# Altium schematic symbol library Movandi_11.SchLib: 20 symbols
Pins are listed as number, name and electrical type; pins without a type are passive.

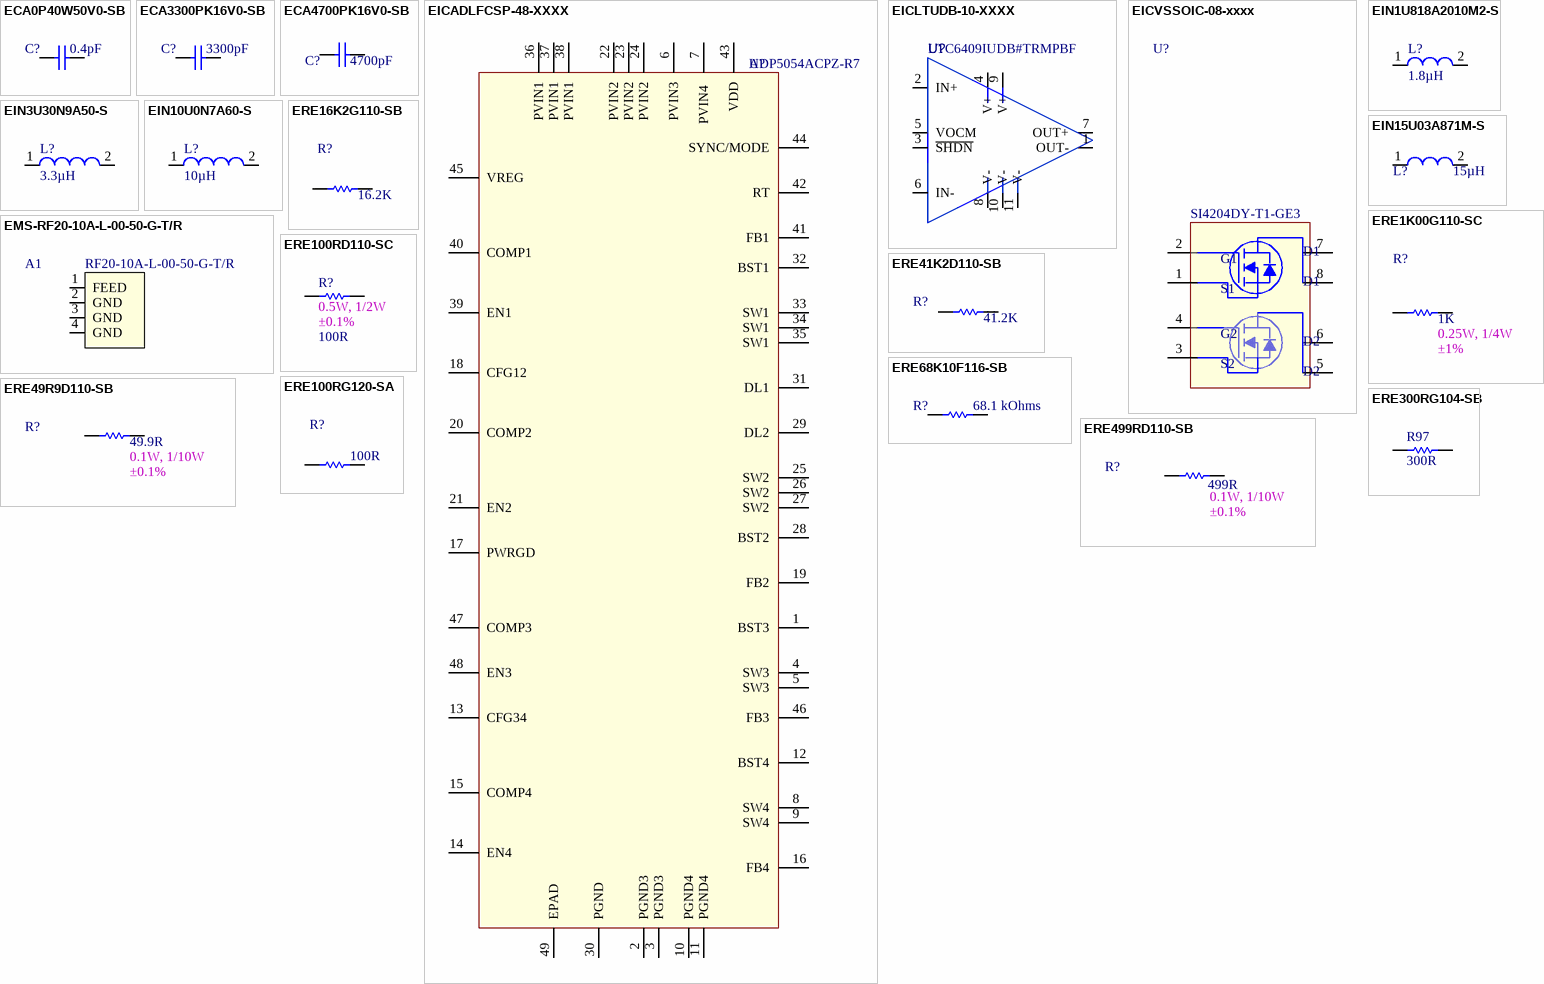
[diagram p0: symbols ECA0P40W50V0-SB to ERE499RD110-SB]

## ECA0P40W50V0-SB
designator C?, comment value 0.4pF  (hidden comment: CAP CER 0.4PF 50V C0G/NP0 0402)
Manufacturer: Murata Electronics; Vendor Part Number: 490-3080-1-ND; Manufacturer Part Number: GJM1555C1HR40BB01D; Internal Part Number: ECA0P40W50V0-SB; Vendor Name: Digi-Key; 3rd Auxiliary Field: ROHS3 Compliant; Component Height (mm): 0.55mm; Temp Co: -55°C ~ 125°C; 2nd Auxiliary Field: ±0.1pF; Part Type: CAP CER 0.4PF 50V C0G/NP0 0402; 4th Auxiliary Field: *; 1st Auxiliary Field: 50V
footprint SMDC0402 (Footprint not found)
pins: 1, 2

## ECA3300PK16V0-SB
designator C?, comment value 3300pF  (hidden comment: CAP CER 3300PF 16V X7R 0402)
Manufacturer: Yageo; Vendor Part Number: 311-3803-1-ND; Manufacturer Part Number: CC0402KRX7R7BB332; Internal Part Number: ECA3300PK16V0-SB; Vendor Name: Digi-Key; 3rd Auxiliary Field: ROHS3 Compliant; Component Height (mm): 0.55MM; 2nd Auxiliary Field: ±10%; Part Type: CAP CER 3300PF 16V X7R 0402; Temp Co: X7R; 1st Auxiliary Field: 16V
footprint SMDC0402
pins: 1, 2

## ECA4700PK16V0-SB
designator C?, comment value 4700pF  (hidden comment: CAP CER 4700PF 16V X7R 0402)
Manufacturer: Yageo; Vendor Part Number: 311-1709-1-ND; Manufacturer Part Number: CC0402KRX7R7BB472; Internal Part Number: ECA4700PK16V0-SB; Vendor Name: Digi-Key; 3rd Auxiliary Field: ROHS3 Compliant; Component Height (mm): 0.55MM; 2nd Auxiliary Field: ±10%; Part Type: CAP CER 4700PF 16V X7R 0402; Temp Co: X7R; 1st Auxiliary Field: 16V
footprint SMDC0402
pins: 1, 2

## EICADLFCSP-48-XXXX
designator U?, comment value ADP5054ACPZ-R7  (hidden comment: IC REG CTRLR BUCK 48LFCSP)
Internal Part Number: EICADLFCSP-48-XXXX; Manufacturer: Analog Devices Inc.; Vendor Part Number: ADP5054ACPZ-R7CT-ND; 1st Auxiliary Field: 4.5V ~ 15.5V; 2nd Auxiliary Field: 250kHz ~ 2MHz; 4th Auxiliary Field: RoHS Compliant; Component Height (mm): 0.80mm; Temp Co: -40°C ~ 125°C (TJ); Vendor Name: Digi-Key; 3rd Auxiliary Field: *; Manufacturer Part Number: ADP5054ACPZ-R7; Part Type: IC REG CTRLR BUCK 48LFCSP
footprint QFN50P700X700X80_HS-49N (Footprint not found)
pins: 1 BST3, 2 PGND3, 3 PGND3, 4 SW3, 5 SW3, 6 PVIN3, 7 PVIN4 , 8 SW4, 9 SW4, 10 PGND4, 11 PGND4, 12 BST4, 13 CFG34 , 14 EN4, 15 COMP4, 16 FB4, 17 PWRGD, 18 CFG12, 19 FB2, 20 COMP2, 21 EN2, 22 PVIN2, 23 PVIN2, 24 PVIN2, 25 SW2, 26 SW2, 27 SW2, 28 BST2, 29 DL2, 30 PGND, 31 DL1, 32 BST1, 33 SW1, 34 SW1, 35 SW1, 36 PVIN1, 37 PVIN1, 38 PVIN1, 39 EN1, 40 COMP1, 41 FB1, 42 RT, 43 VDD, 44 SYNC/MODE, 45 VREG, 46 FB3, 47 COMP3, 48 EN3, 49 EPAD

## EICLTUDB-10-XXXX
designator U?, comment value LTC6409IUDB#TRMPBF  (hidden comment: IC ADC DRIVER 10QFN)
Manufacturer: Linear Technology/Analog Devices; Internal Part Number: EICLTUDB-10-XXXX; Vendor Part Number: LTC6409IUDB#TRMPBFCT-ND; 3rd Auxiliary Field: ROHS3 Compliant; Component Height (mm): 1.10mm; Temp Co: –40°C to 85°C; Vendor Name: Digi-Key; 1st Auxiliary Field: 1.8 V ~ 5.5 V, ±0.9 V ~ 2.75 V; 2nd Auxiliary Field: 52mA; Manufacturer Part Number: LTC6409IUDB#TRMPBF; Part Type: IC ADC DRIVER 10QFN; 4th Auxiliary Field: *
footprint QFN50P300X200X80-11N
pins: 1 OUT-, 2 IN+ "Positive Differential Input", 3 ~{SHDN} "Shutdown Terminal (active low)", 4 V+, 5 VOCM (power), 6 IN- "Negative Differential Input", 7 OUT+, 8 V-, 9 V+, 10 V-, 11 V-

## EICVSSOIC-08-xxxx
designator U?, comment value SI4204DY-T1-GE3  (hidden comment: MOSFET 2N-CH 20V 19.8A 8-SOIC)
Manufacturer: Vishay Siliconix; Internal Part Number: EICVSSOIC-08-xxxx; Vendor Part Number: SI4204DY-T1-GE3CT-ND; Component Height (mm): 1.75mm; Temp Co: -55°C ~ 150°C (TJ); Vendor Name: Digi-Key; 1st Auxiliary Field: 20V; 2nd Auxiliary Field: 19.8A; 3rd Auxiliary Field: *; Part Type: MOSFET 2N-CH 20V 19.8A 8-SOIC; 4th Auxiliary Field: *; Manufacturer Part Number: SI4204DY-T1-GE3
footprint SOIC127P600X176-8N (TL972QDRQ1, IC OPAMP GP 12MHZ RRO 8SOIC)
pins: 1 S1, 2 G1, 3 S2, 4 G2, 5 D2, 6 D2, 7 D1, 8 D1

## EIN1U818A2010M2-S
designator L?, comment value 1.8µH  (hidden comment: FIXED IND 1.8UH 14A 10.2MOHM SMD)
Manufacturer: Bourns Inc.; Manufacturer Part Number: SRP6030CA-1R8M; Vendor Part Number: SRP6030CA-1R8MCT-ND; Internal Part Number: EIN1U818A2010M2-S; 3rd Auxiliary Field: 10.2mOhm Max; Vendor Name: Digi-Key; 4th Auxiliary Field: ROHS3 Compliant; Component Height (mm): 3.00mm; Temp Co: -55°C ~ 155°C; 1st Auxiliary Field: 18.2A; 2nd Auxiliary Field: ±20%; Part Type: FIXED IND 1.8UH 14A 10.2MOHM SMD
footprint INDP660X640X310
pins: 1, 2

## EIN3U30N9A50-S
designator L?, comment value 3.3µH  (hidden comment: FIX IND 3.3UH 8.1A 23.1MOHM SMD)
Manufacturer: Pulse Electronics Power; Manufacturer Part Number: PA5003.332NLT; Internal Part Number: EIN3U30N9A50-S; Vendor Part Number: 553-4089-1-ND; 3rd Auxiliary Field: ±20%; 4th Auxiliary Field: RoHS Compliant; Vendor Name: Digi-Key; Component Height (mm): 3.10mm; Temp Co: -40°C ~ 125°C; 1st Auxiliary Field: 9.5A; 2nd Auxiliary Field: 23.1mOhm Max; Part Type: FIX IND 3.3UH 8.1A 23.1MOHM SMD
footprint IND_PA5003.332NLT (Footprint not found)
pins: 1, 2

## EIN10U0N7A60-S
designator L?, comment value 10µH  (hidden comment: FIXED IND 10UH 5A 26.5 MOHM)
Manufacturer: Würth Elektronik; Manufacturer Part Number: 74439346100; Internal Part Number: EIN10U0N7A60-S; Vendor Part Number: 732-10707-1-ND; 4th Auxiliary Field: ROHS3 Compliant; Vendor Name: Digi-Key; Component Height (mm): 6.10mm; Temp Co: -40°C ~ 125°C; 1st Auxiliary Field: 7.6A; 2nd Auxiliary Field: 20 %; 3rd Auxiliary Field: 26.5mOhm; Part Type: FIXED IND 10UH 5A 26.5 MOHM
footprint INDP665X645X610
pins: 1, 2

## EIN15U03A871M-S
designator L?, comment value 15µH  (hidden comment: FIXED IND 15UH 2.8A 71 MOHM SMD)
Manufacturer: Bourns Inc.; Manufacturer Part Number: SRN6045TA-150M; Vendor Part Number: SRN6045TA-150MCT-ND; Internal Part Number: EIN15U03A871M-S; 3rd Auxiliary Field: 71mOhm; Vendor Name: Digi-Key; 4th Auxiliary Field: RoHS Compliant; Component Height (mm): 4.50mm; Temp Co: 40°C ~ 125°C; 1st Auxiliary Field: 3.8A; 2nd Auxiliary Field: ±20%; Part Type: FIXED IND 15UH 2.8A 71 MOHM SMD
footprint INDP600X600X450
pins: 1, 2

## EMS-RF20-10A-L-00-50-G-T/R
designator A1, comment value RF20-10A-L-00-50-G-T/R  (hidden comment: CONN RF MHF SMT VERT 50OHM)
Manufacturer: Adam Tech; Internal Part Number: EMS-RF20-10A-L-00-50-G-T/R; Vendor Part Number: 2057-RF20-10A-L-00-50-G-T/RCT-ND; Component Height (mm): 0.6mm; 3rd Auxiliary Field: RoHS Compliant; 1st Auxiliary Field: 6GHz; Temp Co: -40°C ~ 80°C; Vendor Name: Digi-Key; Part Type: CONN RF MHF SMT VERT 50OHM; 2nd Auxiliary Field: 50Ohm; Manufacturer Part Number: RF20-10A-L-00-50-G-T/R; 4th Auxiliary Field: *
footprint ADAM_RF20-10A-L-00-50-G-T/R
pins: 1 FEED, 2 GND (power), 3 GND (power), 4 GND (power)

## ERE1K00G110-SC
designator R?, comment value 1K  2nd Auxiliary Field: ±1%  1st Auxiliary Field: 0.25W, 1/4W  (hidden comment: RES SMD 1K OHM 1% 1/4W 0603)
Manufacturer: Panasonic Electronic Components; Vendor Part Number: P1.0KBYCT-ND; Manufacturer Part Number: ERJ-PA3F1001V; Internal Part Number: ERE1K00G110-SC; Vendor Name: Digi-Key; 3rd Auxiliary Field: ROHS3 Compliant; Component Height (mm): 0.55mm; Temp Co: ±100ppm/°C; Part Type: RES SMD 1K OHM 1% 1/4W 0603
footprint SMDR0603 (Footprint not found)
pins: 1, 2

## ERE16K2G110-SB
designator R?, comment value 16.2K  (hidden comment: RES SMD 16.2K OHM 1% 1/10W 0402)
Manufacturer Part Number: ERJ-2RKF1622X; Manufacturer: Panasonic Electronic Components; Internal Part Number: ERE16K2G110-SB; Vendor Part Number: P16.2KLCT-ND; 3rd Auxiliary Field: ROHS3 Compliant; Vendor Name: Digi-Key; Component Height (mm): 0.40mm; Temp Co: ±100ppm/°C; 1st Auxiliary Field: 0.1W; 4th Auxiliary Field: *; Part Type: RES SMD 16.2K OHM 1% 1/10W 0402; 2nd Auxiliary Field: ±1%
footprint SMDR0402 (Footprint not found)
pins: 1, 2

## ERE41K2D110-SB
designator R?, comment value 41.2K  (hidden comment: RES 41.2K OHM 0.1% 1/10W 0402)
Manufacturer Part Number: RP73PF1E41K2BTD; Manufacturer: TE Connectivity Passive Product; Internal Part Number: ERE41K2D110-SB; Vendor Part Number: A127474CT-ND; Temp Co: ±25ppm/°C; 4th Auxiliary Field: RoHS Compliant; Vendor Name: Digi-Key; Component Height (mm): 0.35mm; 1st Auxiliary Field: 0.1W, 1/10W; 3rd Auxiliary Field: *; Part Type: RES 41.2K OHM 0.1% 1/10W 0402; 2nd Auxiliary Field: ±0.1%
footprint SMDR0402 (Footprint not found)
footprint SMDR0603
pins: 1, 2

## ERE49R9D110-SB
designator R?, comment value 49.9R  1st Auxiliary Field: 0.1W, 1/10W  2nd Auxiliary Field: ±0.1%  (hidden comment: RES 49.9 OHM 0.1% 1/10W 0402)
Manufacturer Part Number: RP73PF1E49R9BTD; Manufacturer: TE Connectivity Passive Product; Internal Part Number: ERE49R9D110-SB; Vendor Part Number: A127194CT-ND; Temp Co: -55°C ~ 155°C; 3rd Auxiliary Field: RoHS Compliant; Vendor Name: Digi-Key; Component Height (mm): 0.35mm; 4th Auxiliary Field: *; Part Type: RES 49.9 OHM 0.1% 1/10W 0402
footprint SMDRC0402
footprint SMDR0402
pins: 1, 2

## ERE68K10F116-SB
designator R?, comment value 68.1 kOhms  (hidden comment: RES SMD 68.1KOHM 0.1% 1/16W 0402)
Manufacturer Part Number: RT0402BRD0768K1L; Manufacturer: Yageo; Internal Part Number: ERE68K10F116-SB; Vendor Part Number: YAG4299CT-ND; 3rd Auxiliary Field: ROHS3 Compliant; Component Height (mm): 0.35mm; Temp Co: -55°C ~ 155°C; Vendor Name: Digi-Key; 1st Auxiliary Field: 0.063W, 1/16W; Part Type: RES SMD 68.1KOHM 0.1% 1/16W 0402; 2nd Auxiliary Field: ±0.1%
footprint SMDR0402
pins: 1, 2

## ERE100RD110-SC
designator R?, comment value 100R  1st Auxiliary Field: 0.5W, 1/2W  2nd Auxiliary Field: ±0.1%  (hidden comment: RES SMD 100 OHM 0.1% 1/2W 0603)
Manufacturer Part Number: PCAN0603E1000BST5; Manufacturer: Vishay Thin Film; Internal Part Number: ERE100RD110-SC; Vendor Part Number: 764-1252-1-ND; 3rd Auxiliary Field: ROHS3 Compliant; Component Height (mm): 0.46mm; Temp Co: -55°C ~ 155°C; Vendor Name: Digikey; Part Type: RES SMD 100 OHM 0.1% 1/2W 0603
footprint SMDR0603 (RESC1608X50N)
pins: 1, 2

## ERE100RG120-SA
designator R?, comment value 100R  (hidden comment: RES SMD 100 OHM 1% 1/20W 0201)
Manufacturer Part Number: CRCW0201100RFKED; Manufacturer: Vishay Dale; Internal Part Number: ERE100RG120-SA; Vendor Part Number: 541-100AABTR-ND; Component Height (mm): 0.28mm; 4th Auxiliary Field: ROHS3 Compliant; Vendor Name: Digi-Key; Temp Co: -55°C ~ 155°C; 1st Auxiliary Field: 0.05W, 1/20W; Part Type: RES SMD 100 OHM 1% 1/20W 0201; 3rd Auxiliary Field: *; 2nd Auxiliary Field: ±1%
footprint SMDR0201 (Footprint not found)
pins: 1, 2

## ERE300RG104-SB
designator R97, comment value 300R  (hidden comment: RES SMD 300 OHM 1% 1/4W 0603)
Manufacturer Part Number: ERJ-PA3F3000V; Manufacturer: Panasonic Electronic Components; Internal Part Number: ERE300RG104-SB; Vendor Part Number: P300BYCT-ND; 3rd Auxiliary Field: ROHS3 Compliant; Component Height (mm): 0.55mm; Temp Co: -55°C ~ 155°C; Vendor Name: Digi-Key; 1st Auxiliary Field: 0.25W, 1/4W; Part Type: RES SMD 300 OHM 1% 1/4W 0603; 4th Auxiliary Field: *; 2nd Auxiliary Field: ±1%
footprint SMDR0603 (Footprint not found)
pins: 1, 2

## ERE499RD110-SB
designator R?, comment value 499R  2nd Auxiliary Field: ±0.1%  1st Auxiliary Field: 0.1W, 1/10W  (hidden comment: RES 499 OHM 0.1% 1/10W 0402)
Manufacturer: TE Connectivity Passive Product; Vendor Part Number: A127290CT-ND; Manufacturer Part Number: RP73PF1E499RBTD; Internal Part Number: ERE499RD110-SB; Vendor Name: Digi-Key; 3rd Auxiliary Field: RoHS Compliant; Component Height (mm): 0.35mm; Temp Co: -55°C ~ 155°C; Part Type: RES 499 OHM 0.1% 1/10W 0402; 4th Auxiliary Field: *
footprint SMDR0402 (Footprint not found)
pins: 1, 2